# Altium schematic symbol library Schlib1.SchLib: 3 symbols
Pins are listed as number, name and electrical type; pins without a type are passive.

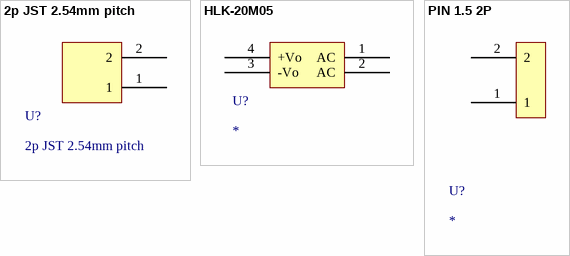
[diagram p0: symbols 2p JST 2.54mm pitch to PIN 1.5 2P]

## 2p JST 2.54mm pitch
designator U?
footprint 2p JST 2.54mm pitch
pins: 1, 2

## HLK-20M05
designator U?
footprint HLK-20M05
pins: 1 AC, 2 AC, 3 -Vo, 4 +Vo

## PIN 1.5 2P
designator U?
BORNERA 1.5MM 2.8MM 2P
footprint PIN 1.5MM 2PIN
pins: 1, 2